# Altium footprint library PCB - LEADLESS - QFN - TI XFQFN-8 1.5X1.5MM UH.PCBLIB: 1 footprints
Each footprint in its own frame and in the unit in brackets; x right, y up, seen from the top. Pads: shape width x height; smd on the part's side, far side on the other; paste and mask are expansions set on the pad; w line width, h text height; cw(c..) or ccw(c..) is an arc to the next point about the centre after c.
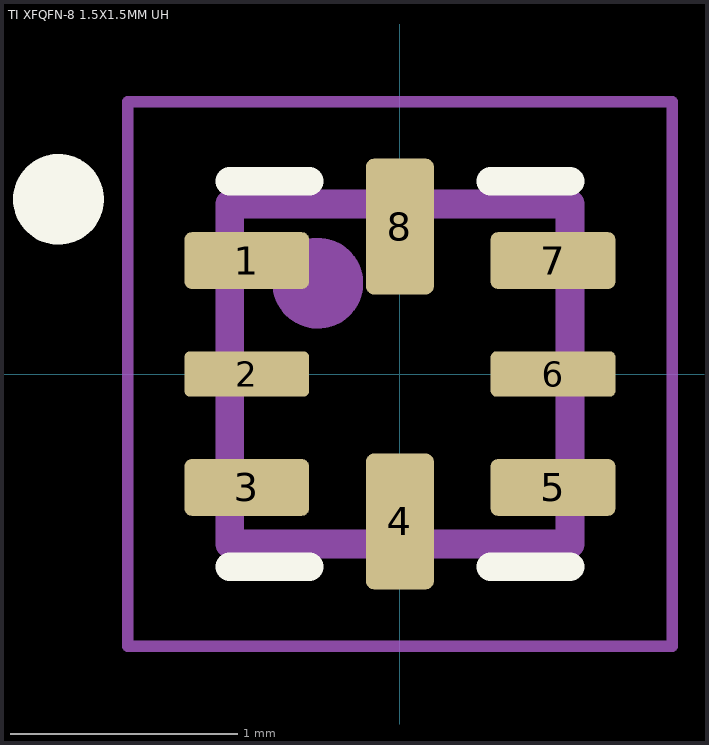
[diagram p0: the footprint, top view; thin cyan lines are the x and y axes]

## TI XFQFN-8 1.5X1.5MM UH [mm]
pads (8):
  rrect25% 0.55x0.25 smd: 1(-0.675,0.5) 3(-0.675,-0.5) 5(0.675,-0.5) 7(0.675,0.5)
  rrect25% 0.55x0.2 smd: 2(-0.675,0) 6(0.675,0)
  rrect25% 0.3x0.6 smd: 4(0,-0.65) 8(0,0.65)
Top Overlay:
  circle w0.2: c-1.505,0.77 r0.1
  lines w0.127: -0.75,-0.85 -0.4,-0.85 ; -0.75,0.85 -0.4,0.85 ; 0.4,-0.85 0.75,-0.85 ; 0.4,0.85 0.75,0.85
Mechanical 13:
  circle w0.2: c-0.362,0.4 r0.1
  lines w0.127: -0.75,-0.75 0.75,-0.75 0.75,0.75 -0.75,0.75 -0.75,-0.75
Mechanical 15:
  lines w0.05: -1.2,-1.2 1.2,-1.2 1.2,1.2 -1.2,1.2 -1.2,-1.2